# Altium schematic symbol library ble_ac_rc_lib.SchLib: 50 symbols
Pins are listed as number, name and electrical type; pins without a type are passive.

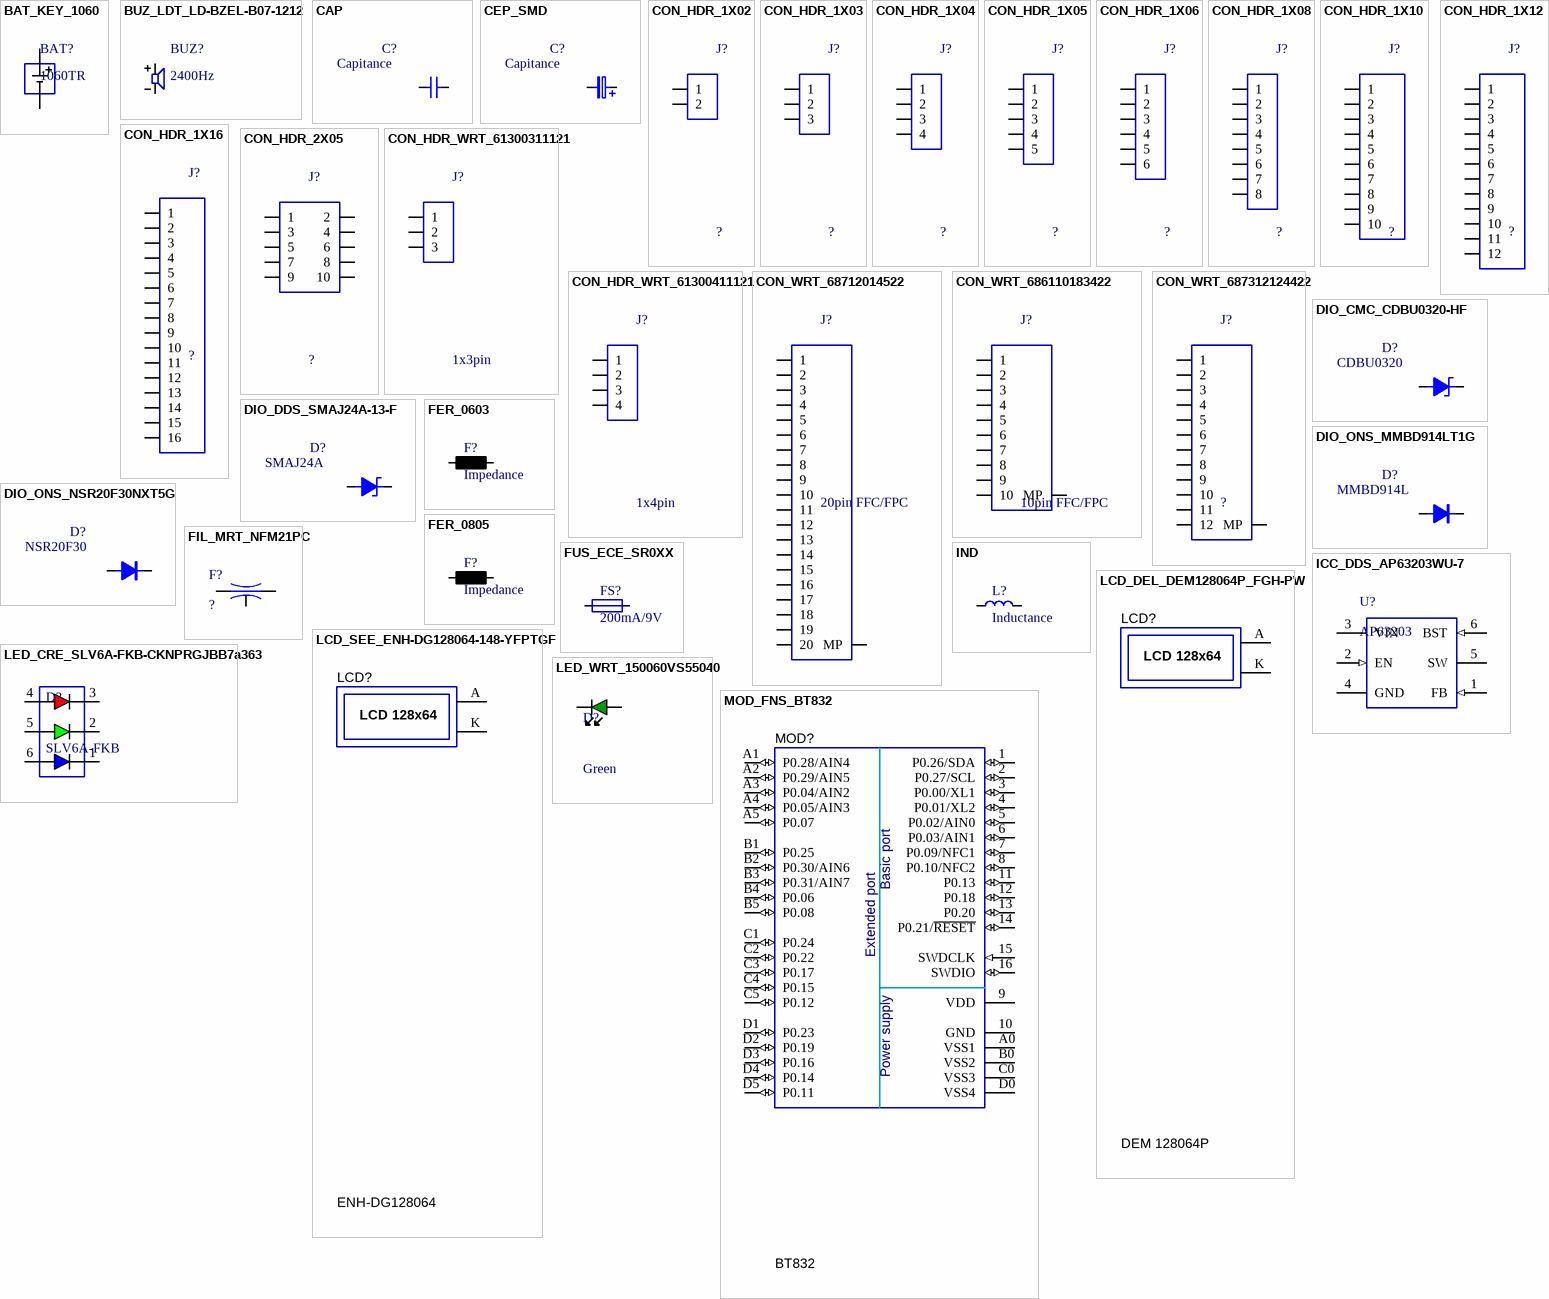
[diagram p0: symbols BAT_KEY_1060 to MOD_FNS_BT832]

## BAT_KEY_1060
designator BAT?, comment 1060TR
BAT; Manufacturer: Keystone Electronics Corp.; Specification: Battery holder, CR2025/CR2032, SMD package; Component Type: Battery holder; Mounting Type: SMD; MPN: 1060TR; Operating Temperature: -xx°C to +xx°C; Package: SMD; Value: 1060TR; Replacement: ?; System: ?
footprint BAT_KEY_1060
pins: 1, 2

## BUZ_LDT_LD-BZEL-B07-1212
designator BUZ?, comment 2400Hz
Buzzer; Manufacturer: Loudity; MPN: LD-BZEL-B07-1212; Specification: Buzzer, internal generator, 2400Hz, 30mA, 85dB, SMD package; Replacement: NO; Component Type: Buzzer; Mounting Type: SMD; Operating Temperature: -30°C to +80°C; Package: SMD; Value: 2400Hz; System: ?
footprint BUZ_LDT_SMB07 (Footprint not found)
pins: 1, 2

## CAP
designator C?, comment Capitance
CAP (generic); Component Type: Capacitor; Mounting Type: SMD; Operating Temperature: -xx°C to +xx°C; Value: Capitance; Replacement: ?; System: ?
pins: 1, 2

## CEP_SMD
designator C?, comment Capitance
ELCAP SMD; Component Type: Capacitor; Mounting Type: SMD; Operating Temperature: -xx°C to +xx°C; Value: Capitance; Replacement: ?; System: ?
pins: 1, 2

## CON_HDR_1X02
designator J?, comment ?
Connector, 2pin; Component Type: Connector; Operating Temperature: -xx°C to +xx°C; Value: ?; Replacement: ?; System: ?
footprint CONN_1X2_2.54
pins: 1, 2

## CON_HDR_1X03
designator J?, comment ?
Connector, 3pin; Component Type: Connector; Operating Temperature: -xx°C to +xx°C; Value: ?; Replacement: ?; System: ?
footprint CONN_1X2_2.54
pins: 1, 2, 3

## CON_HDR_1X04
designator J?, comment ?
Connector, 4pin; Component Type: Connector; Operating Temperature: -xx°C to +xx°C; Value: ?; Replacement: ?; System: ?
footprint CONN_2X2_2.54 (Footprint not found)
pins: 1, 2, 3, 4

## CON_HDR_1X05
designator J?, comment ?
Connector, 5pin; Component Type: Connector; Operating Temperature: -xx°C to +xx°C; Value: ?; Replacement: ?; System: ?
footprint CONN_2X2_2.54 (Footprint not found)
pins: 1, 2, 3, 4, 5

## CON_HDR_1X06
designator J?, comment ?
Connector, 6pin; Component Type: Connector; Operating Temperature: -xx°C to +xx°C; Value: ?; Replacement: ?; System: ?
footprint CONN_2X3_2.54
pins: 1, 2, 3, 4, 5, 6

## CON_HDR_1X08
designator J?, comment ?
Connector, 8pin; Component Type: Connector; Operating Temperature: -xx°C to +xx°C; Value: ?; Replacement: ?; System: ?
footprint CON_HDR_P254_1X08
pins: 1, 2, 3, 4, 5, 6, 7, 8

## CON_HDR_1X10
designator J?, comment ?
Connector, 10pin; Component Type: Connector; Operating Temperature: -xx°C to +xx°C; Value: ?; Replacement: ?; System: ?
footprint CONN_2X5_2.54
pins: 1, 2, 3, 4, 5, 6, 7, 8, 9, 10

## CON_HDR_1X12
designator J?, comment ?
Connector, 12pin; Component Type: Connector; Operating Temperature: -xx°C to +xx°C; Value: ?; Replacement: ?; System: ?
footprint CONN_2X6_2.54
pins: 1, 2, 3, 4, 5, 6, 7, 8, 9, 10, 11, 12

## CON_HDR_1X16
designator J?, comment ?
Connector, 16pin; Component Type: Connector; Operating Temperature: -xx°C to +xx°C; Value: ?; Replacement: ?; System: ?
pins: 1, 2, 3, 4, 5, 6, 7, 8, 9, 10, 11, 12, 13, 14, 15, 16

## CON_HDR_2X05
designator J?, comment ?
Connector, 2x5pin; Component Type: Connector; Operating Temperature: -xx°C to +xx°C; Value: ?; Replacement: ?; System: ?
pins: 1, 2, 3, 4, 5, 6, 7, 8, 9, 10

## CON_HDR_WRT_61300311121
designator J?, comment 1x3pin
Connector; Manufacturer: Wurth Elektronik GmbH; MPN: 61300311121; Specification: Connector, pin header, 1x3 pin, single row, 2.54 pitch, straight pin, THT package; Replacement: YES; Component Type: Connector; Mounting Type: THT; Operating Temperature: -40°C to +125°C; Package: THT; Value: 1x3pin; System: ?
footprint CON_HDR_P254_1X03 (Footprint not found)
pins: 1, 2, 3

## CON_HDR_WRT_61300411121
designator J?, comment 1x4pin
Connector; Manufacturer: Wurth Elektronik GmbH; MPN: 61300411121; Specification: Connector, pin header, 1x4 pin, single row, 2.54 pitch, straight pin, THT package; Replacement: YES; Component Type: Connector; Mounting Type: THT; Operating Temperature: -40°C to +125°C; Package: THT; Value: 1x4pin; System: ?
footprint CON_HDR_P254_1X04 (Footprint not found)
pins: 1, 2, 3, 4

## CON_WRT_68712014522
designator J?, comment 20pin FFC/FPC
Connector; Manufacturer: Wurth Elektronik GmbH; MPN: 68712014522; Specification: WR-FPC SMT ZIF Horizontal, bottom contacts, 0.50 mm pitch, 20 pin, SMD package; Replacement: YES; Component Type: Connector; Mounting Type: SMD; Operating Temperature: -25°C to +85°C; Package: SMD FFC/FPC; Value: 20pin FFC/FPC; System: ?
footprint CON_WRT_68712014522
pins: 0 MP, 1, 2, 3, 4, 5, 6, 7, 8, 9, 10, 11, 12, 13, 14, 15, 16, 17, 18, 19, 20

## CON_WRT_686110183422
designator J?, comment 10pin FFC/FPC
Connector; Manufacturer: Wurth Elektronik GmbH; MPN: 686110183422; Specification: WR-FPC SMT ZIF Horizontal, top contacts, 1.00 mm pitch, 10 pin, SMD package; Replacement: YES; Component Type: Connector; Mounting Type: SMD; Operating Temperature: -25°C to +85°C; Package: SMD FFC/FPC; Value: 10pin FFC/FPC; System: ?
footprint CON_WRT_686110183422 (Footprint not found)
footprint CON_WRT_686110183422_REV
pins: 0 MP, 1, 2, 3, 4, 5, 6, 7, 8, 9, 10

## CON_WRT_687312124422
designator J?, comment ?
Connector; Manufacturer: Wurth Elektronik GmbH; Component Type: Connector; Mounting Type: SMD; Value: ?; Replacement: ?; System: ?
footprint CONN_WE_687312124422
pins: 0 MP, 1, 2, 3, 4, 5, 6, 7, 8, 9, 10, 11, 12

## DIO_CMC_CDBU0320-HF
designator D?, comment CDBU0320
Diode; Manufacturer: Comchip Technology; MPN: CDBU0320-HF; Specification: Schottky Barrier Diode, 20V, 1.5A, SMD 0603 (1608) package; Component Type: Schottky Diode; Mounting Type: SMD; Operating Temperature: -40°C to +125°C; Package: SMD 0603 (1608); Value: CDBU0320; Replacement: ?; System: ?
footprint DIO_0603R
pins: 1, 2

## DIO_DDS_SMAJ24A-13-F
designator D?, comment SMAJ24A
Diode; Manufacturer: Diodes Incorporated; MPN: SMAJ24A-13-F; Specification: TVS Diode, unidirectional, 24V, 400W, DO-214AC (SMA) package; Replacement: YES; Component Type: TVS Diode; Mounting Type: SMD; Operating Temperature: -55°C to +150°C; Package: DO-214AC (SMA); Value: SMAJ24A; System: ?
footprint DIO_SMA_R
pins: 1, 2

## DIO_ONS_MMBD914LT1G
designator D?, comment MMBD914L
Diode; Manufacturer: On Semiconductor; MPN: MMBD914LT1G; Specification: High spped switching diode, 100V, 200mA, SOT23-3; Component Type: Diode; Mounting Type: SMD; Operating Temperature: -55°C to +150°C; Package: SOT23-3; Value: MMBD914L; Replacement: ?; System: ?
footprint PKG_SOT23-3_TO236
pins: 1, 3

## DIO_ONS_NSR20F30NXT5G
designator D?, comment NSR20F30
Diode; Manufacturer: On Semiconductor; MPN: NSR20F30NXT5G; Specification: Schottky Barrier Diode, 30V, 2A, DSN2 (SMD 0603) package; Component Type: Diode; Mounting Type: SMD; Operating Temperature: -40°C to +125°C; Package: DSN2 (SMD 0603); Value: NSR20F30; Replacement: ?; System: ?
footprint DIO_DSN2_0603 (Footprint not found)
pins: 1, 2

## FER_0603
designator F?, comment Impedance
Ferrite Bead 0603; Component Type: Ferrite bead; Mounting Type: SMD; Operating Temperature: -xx°C to +xx°C; Value: Impedance; Replacement: ?; System: ?
footprint 0603F (Footprint not found)
pins: 1, 2

## FER_0805
designator F?, comment Impedance
Ferrite Bead 0805; Component Type: Ferrite bead; Mounting Type: SMD; Operating Temperature: -xx°C to +xx°C; Value: Impedance; Replacement: ?; System: ?
footprint 0805F (Footprint not found)
pins: 1, 2

## FIL_MRT_NFM21PC
designator F?, comment ?
Filter; Manufacturer: Murata Manufacturing; Component Type: EMI Filter; Mounting Type: SMD; Value: ?; Replacement: ?; System: ?
footprint 0805FIL (Footprint not found)
pins: 1 I/O, 2 GND, 3 I/O

## FUS_ECE_SR0XX
designator FS?, comment 200mA/9V
Fuse; Manufacturer: ECE; MPN: SR020-09; Specification: Polymer fuse, 200mA, 9V, SMD 0805 (2012) package; Replacement: YES; Component Type: Polymer fuse; Mounting Type: SMD; Operating Temperature: -40°C to +85°C; Package: SMD 0805 (2012); Value: 200mA/9V; System: ?
footprint FUS_ECE_SR0XX (Footprint not found)
pins: 1, 2

## ICC_DDS_AP63203WU-7
designator U?, comment AP63203
ICC; Manufacturer: Diodes Incorporated; MPN: AP63203WU-7; Specification: Synchronous buck converter with enhanced EMI reduction, VOUT 3.3V, VIN 3.8V - 32V, 2A, 1.1MHz, TSOT26 package; Component Type: IC; Mounting Type: SMD; Operating Temperature: -40°C to +85°C; Package: TSOT26; Value: AP63203; Replacement: ?; System: ?
footprint ICC_TSOT26 (Footprint not found)
pins: 1 FB (in), 2 EN (in), 3 VIN (power), 4 GND (power), 5 SW (power), 6 BST (in)

## IND
designator L?, comment Inductance
IND; Component Type: Inductor; Manufacturer: ?; Mounting Type: SMD; MPN: ?; Operating Temperature: -xx°C to +xx°C; Package: ?; Specification: ?; Value: Inductance; Replacement: ?; System: ?
pins: 1, 2

## LCD_DEL_DEM128064P_FGH-PW
designator LCD?, comment DEM 128064P
LCD display; Manufacturer: Display Elektronik; MPN: DEM 128064P FGH-PW; Replacement: NO; Specification: Graphic LCD display, 128x64 pix., FSTN positive, white backlight, 37x30.3x7.1mm, ST7567 controller, THT package; Component Type: LCD display; Mounting Type: THT; Operating Temperature: -20°C to +70°C; Package: THT, 37x30.3mm; System: ?; Value: DEM 128064P
footprint LCD_DEL_DEM128064P_FGH-PW_A1
footprint LCD_DEL_DEM128064P_FGH-PW_A2
pins: A, K
text: LCD 128x64

## LCD_SEE_ENH-DG128064-148-YFPTGF
designator LCD?, comment ENH-DG128064
LCD display; Manufacturer: Shenzhen Enrich Electronics; MPN: ENH-DG128064-148-YFPTGF; Replacement: NO; Specification: Graphic LCD display, 128x64 pix., FSTN negative, white backlight, 56.60x38.60x5.10mm, ST7567 controller, THT package; Component Type: LCD display; Mounting Type: THT; Operating Temperature: -20°C to +70°C; Package: THT, 56.6x38.6mm; System: ?; Value: ENH-DG128064
footprint LCD_SEE_ENH-DG128064-148-YFPTGF_A1
footprint LCD_SEE_ENH-DG128064-148-YFPTGF_A2
pins: A, K
text: LCD 128x64

## LED_CRE_SLV6A-FKB-CKNPRGJBB7a363
designator D?, comment SLV6A-FKB
LED; Manufacturer: CREE; MPN: SLV6A-FKB-CKNPRGJBB7a363; Replacement: YES; Specification: LED RGB diode, Red 560-1120 mcd, Green 1120-2240 mcd, Blue 280-560 mcd, PLCC6 package; Component Type: LED Diode; Mounting Type: SMD; Operating Temperature: -40°C to +100°C; Package: SMD PLCC6; System: ?; Value: SLV6A-FKB
footprint LED_CRE_PLCC6_550_550
pins: 1 CB, 2 CG, 3 CR, 4 AR, 5 AG, 6 AB

## LED_WRT_150060VS55040
designator D?, comment Green
LED; Manufacturer: Wurth Elektronik; MPN: 150060VS55040; Replacement: YES; Specification: LED diode, green, 575nm, 60mcd, 140deg, 0603 package; Component Type: LED Diode; Mounting Type: SMD; Operating Temperature: -40°C to +85°C; Package: SMD 0603 (1608); System: ?; Value: Green
footprint LED_0603R
pins: 1 K, 2 A

## MOD_FNS_BT832
designator MOD?, comment BT832
PCB Module; Manufacturer: Fanstel Corp.; Replacement: YES; Specification: Bluetooth 5.0 + NFC module, Nordic nRF52832 QFN48, 512kB Flash + 64kB RAM, 14x16x1.9mm SMD package; Component Type: PCB Module; Mounting Type: SMD; MPN: BT832; Operating Temperature: -40°C to +85°C; Package: PCB Module; System: ?; Value: BT832
footprint MOD_FNS_BT832_BT832A (Footprint not found)
pins: 1 P0.26/SDA (io), 2 P0.27/SCL (io), 3 P0.00/XL1 (io), 4 P0.01/XL2 (io), 5 P0.02/AIN0 (io), 6 P0.03/AIN1 (io), 7 P0.09/NFC1 (io), 8 P0.10/NFC2 (io), 9 VDD (power), 10 GND (power), 11 P0.13 (io), 12 P0.18 (io), 13 P0.20 (io), 14 P0.21/~{RESET} (io), 15 SWDCLK (in), 16 SWDIO (io), A0 VSS1 (power), A1 P0.28/AIN4 (io), A2 P0.29/AIN5 (io), A3 P0.04/AIN2 (io), A4 P0.05/AIN3 (io), A5 P0.07 (io), B0 VSS2 (power), B1 P0.25 (io), B2 P0.30/AIN6 (io), B3 P0.31/AIN7 (io), B4 P0.06 (io), B5 P0.08 (io), C0 VSS3 (power), C1 P0.24 (io), C2 P0.22 (io), C3 P0.17 (io), C4 P0.15 (io), C5 P0.12 (io), D0 VSS4 (power), D1 P0.23 (io), D2 P0.19 (io), D3 P0.16 (io), D4 P0.14 (io), D5 P0.11 (io)
text: Basic port; Extended port; Power supply

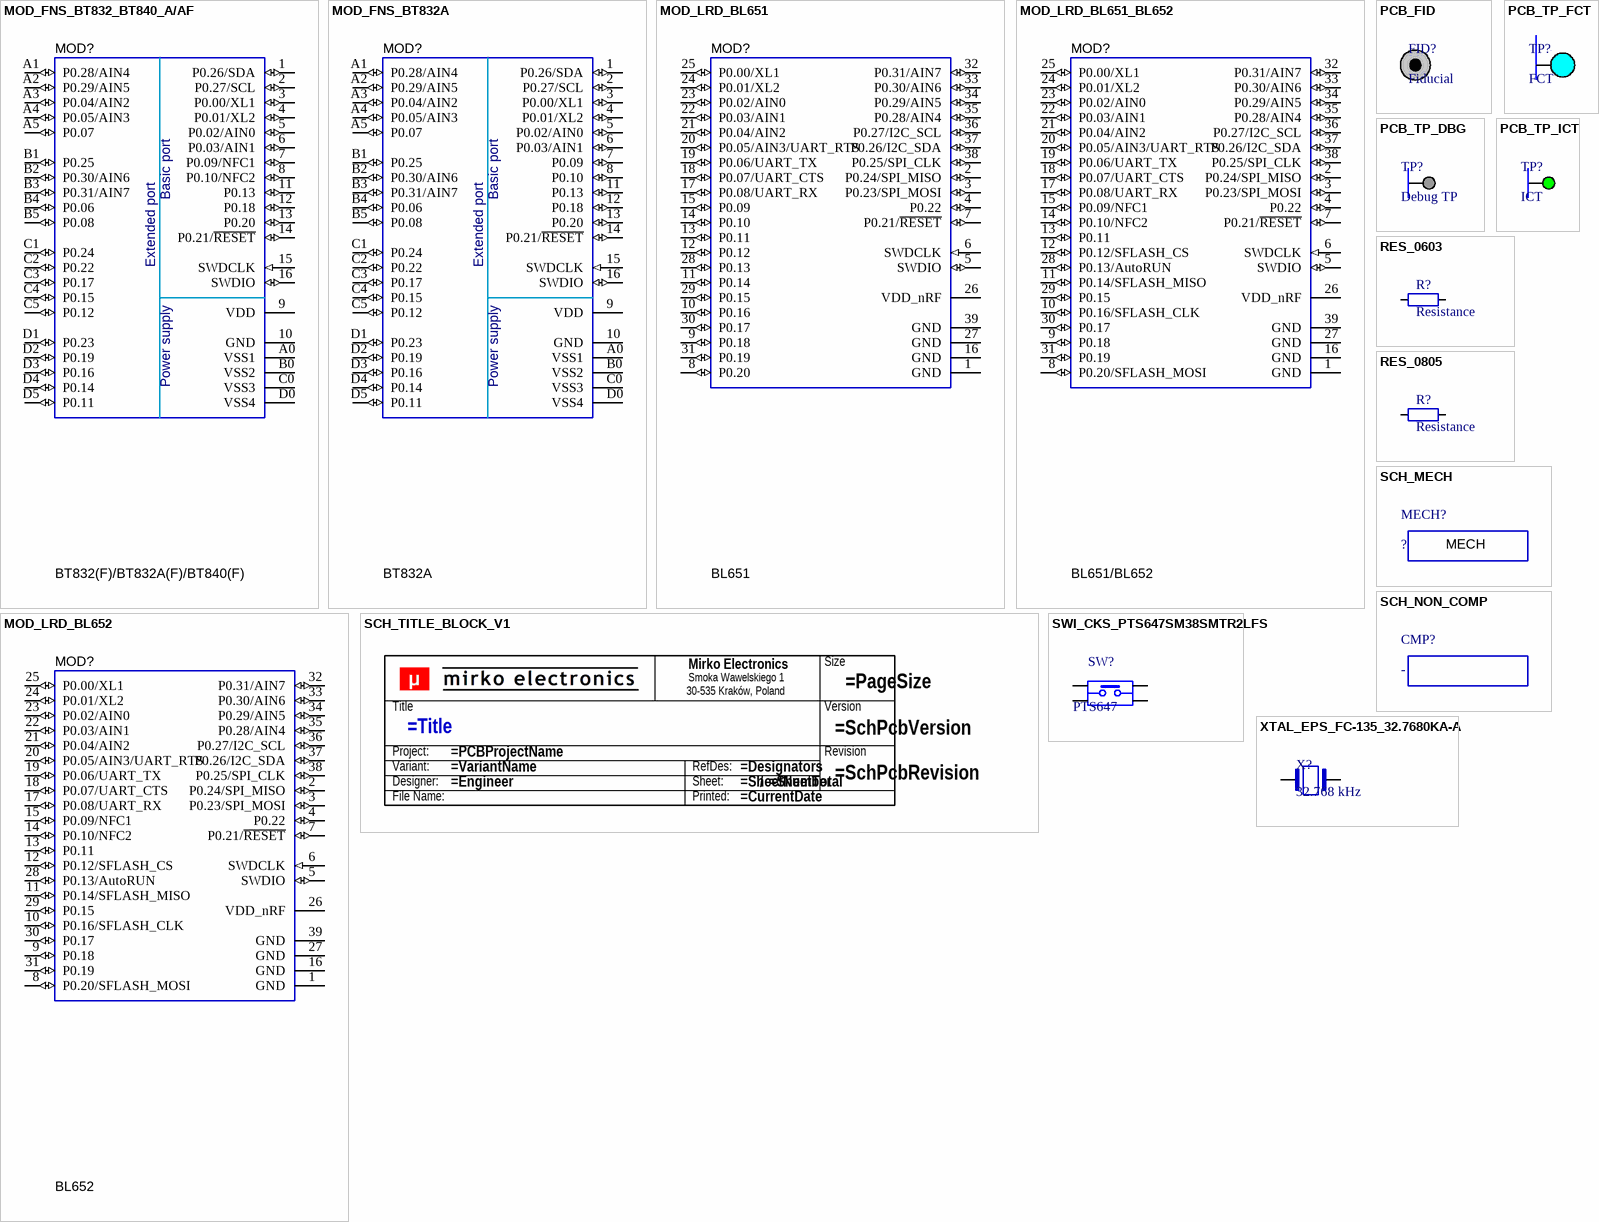
[diagram p1: symbols MOD_FNS_BT832_BT840_A/AF to XTAL_EPS_FC-135_32.7680KA-A]

## MOD_FNS_BT832_BT840_A/AF
designator MOD?, comment BT832(F)/BT832A(F)/BT840(F)
PCB Module; Manufacturer: Fanstel Corp.; Replacement: YES; Specification: Bluetooth 5.0 + NFC module, Nordic nRF52810/nRF52832 QFN48, 192/512kB Flash + 24/64kB RAM, 14x16x1.9mm SMD package; Component Type: PCB Module; Mounting Type: SMD; MPN: BT832(F)/BT832A(F)/BT840(F); Operating Temperature: -40°C to +85°C; Package: PCB Module; System: ?; Value: BT832(F)/BT832A(F)/BT840(F)
footprint MOD_FNS_BT832_BT840_A/AF
pins: 1 P0.26/SDA (io), 2 P0.27/SCL (io), 3 P0.00/XL1 (io), 4 P0.01/XL2 (io), 5 P0.02/AIN0 (io), 6 P0.03/AIN1 (io), 7 P0.09/NFC1 (io), 8 P0.10/NFC2 (io), 9 VDD (power), 10 GND (power), 11 P0.13 (io), 12 P0.18 (io), 13 P0.20 (io), 14 P0.21/~{RESET} (io), 15 SWDCLK (in), 16 SWDIO (io), A0 VSS1 (power), A1 P0.28/AIN4 (io), A2 P0.29/AIN5 (io), A3 P0.04/AIN2 (io), A4 P0.05/AIN3 (io), A5 P0.07 (io), B0 VSS2 (power), B1 P0.25 (io), B2 P0.30/AIN6 (io), B3 P0.31/AIN7 (io), B4 P0.06 (io), B5 P0.08 (io), C0 VSS3 (power), C1 P0.24 (io), C2 P0.22 (io), C3 P0.17 (io), C4 P0.15 (io), C5 P0.12 (io), D0 VSS4 (power), D1 P0.23 (io), D2 P0.19 (io), D3 P0.16 (io), D4 P0.14 (io), D5 P0.11 (io)
text: Basic port; Extended port; Power supply

## MOD_FNS_BT832A
designator MOD?, comment BT832A
PCB Module; Manufacturer: Fanstel Corp.; Replacement: YES; Specification: Bluetooth 5.0 module, Nordic nRF52810 QFN48, 192kB Flash + 24kB RAM, 14x16x1.9mm SMD package; Component Type: PCB Module; Mounting Type: SMD; MPN: BT832A; Operating Temperature: -40°C to +85°C; Package: PCB Module; System: ?; Value: BT832A
footprint MOD_FNS_BT832_BT832A (Footprint not found)
pins: 1 P0.26/SDA (io), 2 P0.27/SCL (io), 3 P0.00/XL1 (io), 4 P0.01/XL2 (io), 5 P0.02/AIN0 (io), 6 P0.03/AIN1 (io), 7 P0.09 (io), 8 P0.10 (io), 9 VDD (power), 10 GND (power), 11 P0.13 (io), 12 P0.18 (io), 13 P0.20 (io), 14 P0.21/~{RESET} (io), 15 SWDCLK (in), 16 SWDIO (io), A0 VSS1 (power), A1 P0.28/AIN4 (io), A2 P0.29/AIN5 (io), A3 P0.04/AIN2 (io), A4 P0.05/AIN3 (io), A5 P0.07 (io), B0 VSS2 (power), B1 P0.25 (io), B2 P0.30/AIN6 (io), B3 P0.31/AIN7 (io), B4 P0.06 (io), B5 P0.08 (io), C0 VSS3 (power), C1 P0.24 (io), C2 P0.22 (io), C3 P0.17 (io), C4 P0.15 (io), C5 P0.12 (io), D0 VSS4 (power), D1 P0.23 (io), D2 P0.19 (io), D3 P0.16 (io), D4 P0.14 (io), D5 P0.11 (io)
text: Basic port; Extended port; Power supply

## MOD_LRD_BL651
designator MOD?, comment BL651
PCB Module; Manufacturer: Laird Connectivity; Replacement: YES; Specification: Bluetooth 5.0 module, Nordic nRF52810 QFN48, 192kB Flash + 24kB RAM, 14x10x2.1mm SMD package; Component Type: PCB Module; Mounting Type: SMD; MPN: BL651; Operating Temperature: -40°C to +85°C; Package: PCB Module; System: ?; Value: BL651
footprint MOD_LRD_BL651 (Footprint not found)
pins: 1 GND (power), 2 P0.24/SPI_MISO (io), 3 P0.23/SPI_MOSI (io), 4 P0.22 (io), 5 SWDIO (io), 6 SWDCLK (in), 7 P0.21/~{RESET} (io), 8 P0.20 (io), 9 P0.18 (io), 10 P0.16 (io), 11 P0.14 (io), 12 P0.12 (io), 13 P0.11 (io), 14 P0.10 (io), 15 P0.09 (io), 16 GND (power), 17 P0.08/UART_RX (io), 18 P0.07/UART_CTS (io), 19 P0.06/UART_TX (io), 20 P0.05/AIN3/UART_RTS (io), 21 P0.04/AIN2 (io), 22 P0.03/AIN1 (io), 23 P0.02/AIN0 (io), 24 P0.01/XL2 (io), 25 P0.00/XL1 (io), 26 VDD_nRF (power), 27 GND (power), 28 P0.13 (io), 29 P0.15 (io), 30 P0.17 (io), 31 P0.19 (io), 32 P0.31/AIN7 (io), 33 P0.30/AIN6 (io), 34 P0.29/AIN5 (io), 35 P0.28/AIN4 (io), 36 P0.27/I2C_SCL (io), 37 P0.26/I2C_SDA (io), 38 P0.25/SPI_CLK (io), 39 GND (power)

## MOD_LRD_BL651_BL652
designator MOD?, comment BL651/BL652
PCB Module; Manufacturer: Laird Connectivity; Replacement: YES; Specification: Bluetooth 5.0 + NFC module, Nordic nRF52810/nRF52832 QFN48, 192/512kB Flash + 24/64kB RAM, 14x10x2.1mm SMD package; Component Type: PCB Module; Mounting Type: SMD; MPN: BL651/BL652; Operating Temperature: -40°C to +85°C; Package: PCB Module; System: ?; Value: BL651/BL652
footprint MOD_LRD_BL651_BL652 (Footprint not found)
pins: 1 GND (power), 2 P0.24/SPI_MISO (io), 3 P0.23/SPI_MOSI (io), 4 P0.22 (io), 5 SWDIO (io), 6 SWDCLK (in), 7 P0.21/~{RESET} (io), 8 P0.20/SFLASH_MOSI (io), 9 P0.18 (io), 10 P0.16/SFLASH_CLK (io), 11 P0.14/SFLASH_MISO (io), 12 P0.12/SFLASH_CS (io), 13 P0.11 (io), 14 P0.10/NFC2 (io), 15 P0.09/NFC1 (io), 16 GND (power), 17 P0.08/UART_RX (io), 18 P0.07/UART_CTS (io), 19 P0.06/UART_TX (io), 20 P0.05/AIN3/UART_RTS (io), 21 P0.04/AIN2 (io), 22 P0.03/AIN1 (io), 23 P0.02/AIN0 (io), 24 P0.01/XL2 (io), 25 P0.00/XL1 (io), 26 VDD_nRF (power), 27 GND (power), 28 P0.13/AutoRUN (io), 29 P0.15 (io), 30 P0.17 (io), 31 P0.19 (io), 32 P0.31/AIN7 (io), 33 P0.30/AIN6 (io), 34 P0.29/AIN5 (io), 35 P0.28/AIN4 (io), 36 P0.27/I2C_SCL (io), 37 P0.26/I2C_SDA (io), 38 P0.25/SPI_CLK (io), 39 GND (power)

## MOD_LRD_BL652
designator MOD?, comment BL652
PCB Module; Manufacturer: Laird Connectivity; Replacement: YES; Specification: Bluetooth 5.0 + NFC module, Nordic nRF52832 QFN48, 512kB Flash + 64kB RAM, 14x10x2.1mm SMD package; Component Type: PCB Module; Mounting Type: SMD; MPN: BL652; Operating Temperature: -40°C to +85°C; Package: PCB Module; System: ?; Value: BL652
footprint MOD_LRD_BL651_BL652 (Footprint not found)
pins: 1 GND (power), 2 P0.24/SPI_MISO (io), 3 P0.23/SPI_MOSI (io), 4 P0.22 (io), 5 SWDIO (io), 6 SWDCLK (in), 7 P0.21/~{RESET} (io), 8 P0.20/SFLASH_MOSI (io), 9 P0.18 (io), 10 P0.16/SFLASH_CLK (io), 11 P0.14/SFLASH_MISO (io), 12 P0.12/SFLASH_CS (io), 13 P0.11 (io), 14 P0.10/NFC2 (io), 15 P0.09/NFC1 (io), 16 GND (power), 17 P0.08/UART_RX (io), 18 P0.07/UART_CTS (io), 19 P0.06/UART_TX (io), 20 P0.05/AIN3/UART_RTS (io), 21 P0.04/AIN2 (io), 22 P0.03/AIN1 (io), 23 P0.02/AIN0 (io), 24 P0.01/XL2 (io), 25 P0.00/XL1 (io), 26 VDD_nRF (power), 27 GND (power), 28 P0.13/AutoRUN (io), 29 P0.15 (io), 30 P0.17 (io), 31 P0.19 (io), 32 P0.31/AIN7 (io), 33 P0.30/AIN6 (io), 34 P0.29/AIN5 (io), 35 P0.28/AIN4 (io), 36 P0.27/I2C_SCL (io), 37 P0.26/I2C_SDA (io), 38 P0.25/SPI_CLK (io), 39 GND (power)

## PCB_FID
designator FID?, comment Fiducial  (no BOM)
Component Type: Fiducial; Manufacturer: -; Mounting Type: -; MPN: -; Operating Temperature: -; Package: -; Specification: Fiducial; Value: Fiducial; Replacement: ?; System: ?
footprint FID-RND-1.0x3.0
footprint FID-RND-1.5x3.0

## PCB_TP_DBG
designator TP?, comment Debug TP  (no BOM)
Testpoint (debug); Specification: Testpoint (for debug mode only), SMD pad; Component Type: Testpoint (for debug); Manufacturer: -; Mounting Type: Non component; MPN: -; Operating Temperature: -; Package: -; Value: Debug TP; Replacement: ?; System: ?
pins: 1

## PCB_TP_FCT
designator TP?, comment FCT  (no BOM)
Testpoint (FCT); Specification: Testpoint (for FCT), SMD pad; Component Type: Testpoint (for FCT); Manufacturer: -; Mounting Type: Non component; MPN: -; Operating Temperature: -; Package: -; Value: FCT; Replacement: ?; System: ?
pins: 1

## PCB_TP_ICT
designator TP?, comment ICT  (no BOM)
Test Point (ICT); Specification: Testpoint (for ICT), SMD pad; Component Type: Testpoint (for ICT); Manufacturer: -; Mounting Type: Non component; MPN: -; Operating Temperature: -; Package: -; Value: ICT; Replacement: ?; System: ?
pins: 1

## RES_0603
designator R?, comment Resistance
RES 0603; Component Type: Resistor; Mounting Type: SMD; Operating Temperature: -xx°C to +xx°C; Value: Resistance; Replacement: ?; System: ?
footprint 0603R
pins: 1, 2

## RES_0805
designator R?, comment Resistance
RES 0805; Component Type: Resistor; Mounting Type: SMD; Operating Temperature: -xx°C to +xx°C; Value: Resistance; Replacement: ?; System: ?
footprint 0805R (Footprint not found)
pins: 1, 2

## SCH_MECH
designator MECH?, comment ?  (mechanical)
Mechanical; Component Type: Mechanical; Value: ?; Replacement: ?; System: ?
text: MECH

## SCH_NON_COMP
designator CMP?, comment -  (no BOM)
NonComponent; Component Type: Non Component; Manufacturer: -; Mounting Type: -; MPN: -; Operating Temperature: -; Package: -; Specification: -; Value: -; Replacement: ?; System: ?

## SCH_TITLE_BLOCK_V1
designator TB?, comment Title block  (value not drawn)  (graphical)
Component Type: Title block; Manufacturer: -; Mounting Type: Non component; MPN: -; Operating Temperature: -; Package: -; Specification: Title block; Value: Title block; Replacement: -; System: ?
text: Mirko Electronics; Size; Smoka Wawelskiego 1; 30-535 Kraków, Poland; Title; Version; Project:; Revision; Variant:; RefDes:; Designer:; Sheet:; /; File Name:; Printed:

## SWI_CKS_PTS647SM38SMTR2LFS
designator SW?, comment PTS647
Switch; Manufacturer: C&K Switches; MPN: PTS647SM38SMTR2LFS; Replacement: YES; Specification: Tactile switch, 50mA, 12VDC, 1.8N force, 3.8mm height, 3.0mm pitch, 4.5mm x 4.5mm size, SMD package; Component Type: Switch; Mounting Type: SMD; Operating Temperature: -20°C to +70°C; Package: SMD; System: ?; Value: PTS647
footprint SWI_CKS_PTS647Sx38
pins: 1, 2, 3, 4

## XTAL_EPS_FC-135_32.7680KA-A
designator X?, comment 32.768 kHz
XTAL; Manufacturer: Seiko Epson Corp.; MPN: FC-135 32.7680KA-A; Specification: Crystal, 32.768 kHz, 20ppm, 12.5pF, SMD 3.2x1.5x0.8mm package; Replacement: YES; Component Type: Crystal; Mounting Type: SMD; Operating Temperature: -40°C to +85°C; Package: SMD 3.2x1.5x0.8mm; Value: 32.768 kHz; System: ?
footprint OSC_EPS_FC-135 (Footprint not found)
pins: 1, 2